# Altium schematic symbol library PEC11R-4225F-N0024.SchLib: 1 symbol
Pins are listed as number, name and electrical type; pins without a type are passive.

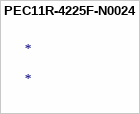
[diagram p0: symbol PEC11R-4225F-N0024]

## PEC11R-4225F-N0024
designator *